# Altium schematic symbol library SN74HC595N.SchLib: 1 symbol
Pins are listed as number, name and electrical type; pins without a type are passive.

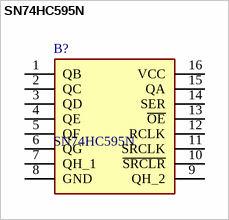
[diagram p0: symbol SN74HC595N]

## SN74HC595N
designator B?
8-Bit Shift Registers With 3-State Output Registers; Manufacturer_Name: Texas Instruments; Geometry.Height: 5.08mm; Mouser Part Number: 595-SN74HC595N; Mouser Price/Stock: https://www.mouser.co.uk/ProductDetail/Texas-Instruments/SN74HC595N?qs=IEl3ej0IqwBTHkYa8XPoMQ%3D%3D; Manufacturer_Part_Number: SN74HC595N; Datasheet Link: http://www.ti.com/lit/ds/symlink/sn74hc595.pdf
footprint DIP794W53P254L1930H508Q16N
pins: 1 QB, 2 QC, 3 QD, 4 QE, 5 QF, 6 QG, 7 QH_1, 8 GND, 9 QH_2, 10 ~{SRCLR}, 11 SRCLK, 12 RCLK, 13 ~{OE}, 14 SER, 15 QA, 16 VCC (power)